# EAGLE library part ADS7861 (library ARVP)
ADS7861 Dual, 500kHz, 12-Bit, 2+2 Ch, Simultaneous Sampling Analog-To-Digital Converter
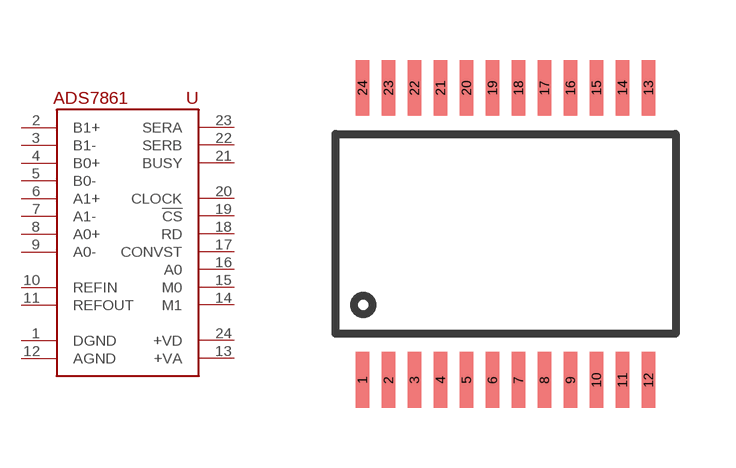
[diagram p19: symbol with the pads of SSOP24; footprint SSOP24]

Designator prefix -

## ADS7861E  [SSOP24]
1  DGND  pwr
2  B1+
3  B1-
4  B0+
5  B0-
6  A1+
7  A1-
8  A0+
9  A0-
10  REFIN
11  REFOUT
12  AGND  pwr
13  +VA  pwr
14  M1  in
15  M0  in
16  A0  in
17  CONVST  in
18  RD  in
19  !CS!  in
20  CLOCK  in
21  BUSY  out
22  SERB  out
23  SERA  out
24  +VD  pwr

## Footprint SSOP24 (pad centres in mm)
smd 0.348 x 1.397: 1 -3.575,-3.656; 2 -2.925,-3.656; 3 -2.275,-3.656; 4 -1.625,-3.656; 5 -0.975,-3.656; 6 -0.325,-3.656; 7 0.325,-3.656; 8 0.975,-3.656; 9 1.625,-3.656; 10 2.275,-3.656; 11 2.925,-3.656; 12 3.575,-3.656; 13 3.575,3.656; 14 2.925,3.656; 15 2.275,3.656; 16 1.625,3.656; 17 0.975,3.656; 18 0.325,3.656; 19 -0.325,3.656; 20 -0.975,3.656; 21 -1.625,3.656; 22 -2.275,3.656; 23 -2.925,3.656; 24 -3.575,3.656